# Altium footprint library modulo_control_pcblib.PcbLib: 6 footprints
Each footprint in its own frame and in the unit in brackets; x right, y up, seen from the top. Pads: shape width x height; smd on the part's side, far side on the other; paste and mask are expansions set on the pad; w line width, h text height; cw(c..) or ccw(c..) is an arc to the next point about the centre after c.
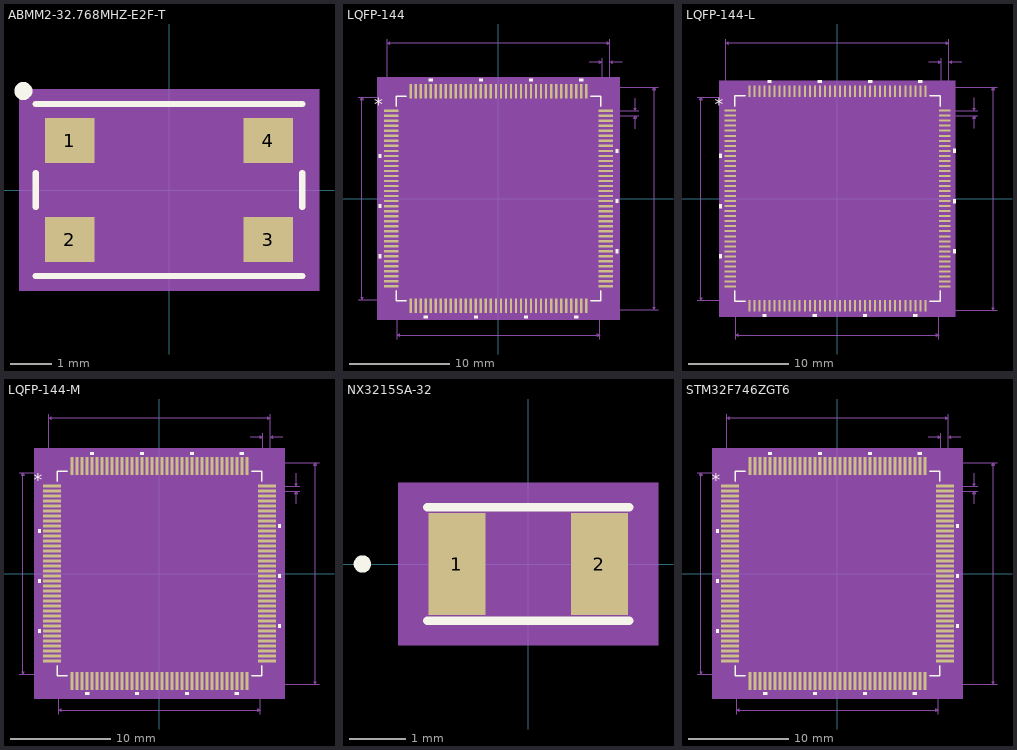
[diagram p0: the footprints below, top view; thin cyan lines are the x and y axes]

## ABMM2-32.768MHZ-E2F-T [mil]
pads (4):
  rect 47x43 smd paste+0 mask+0: 1(-94.5,47.24) 2(-94.5,-47.24) 3(94.5,-47.24) 4(94.5,47.24)
Top Overlay:
  circle w10: c-138.78,94.49 r3.55
  lines w6: -127,-82 127,-82 ; -127,-16.23 -127,16.23 ; -127,82 127,82 ; 127,-16.23 127,16.23
Mechanical 5:
  region: 143,-96 -143,-96 -143,96 143,96
Mechanical 13:
  lines w1: -122,27 -72,77 ; -122,-77 122,-77 122,77 -122,77 -122,-77 ; -122,-68.74 -122,-25.74 -118,-25.74 -118,-68.74 -122,-68.74 ; -122,25.74 -122,68.74 -118,68.74 -118,25.74 -122,25.74 ; 118,-68.74 122,-68.74 122,-25.74 118,-25.74 118,-68.74 ; 118,25.74 122,25.74 122,68.74 118,68.74 118,25.74
Mechanical 15:
  region: 15.74,-87 -132,-87 -132,-78.74 -132,78.74 -132,87 15.74,87 -15.74,87 132,87 132,78.74 132,-78.74 132,-87 -15.74,-87
  lines w6: -132,-87 -132,-78.74 -132,78.74 -132,87 15.74,87 -15.74,87 132,87 132,78.74 132,-78.74 132,-87 -15.74,-87 15.74,-87 -132,-87
3D body "ABMM2.STEP": height 47.64, standoff 0, extent -118.1,-70.86 118.12,70.87

## LQFP-144 [mm]
pads (144):
  rect 1.462x0.239 smd paste+0 mask+0: 1(-10.719,8.75) 2(-10.719,8.25) 3(-10.719,7.75) 4(-10.719,7.25) 5(-10.719,6.75) 6(-10.719,6.25) 7(-10.719,5.75) 8(-10.719,5.25) 9(-10.719,4.75) 10(-10.719,4.25) 11(-10.719,3.75) 12(-10.719,3.25) 13(-10.719,2.75) 14(-10.719,2.25) 15(-10.719,1.75) 16(-10.719,1.25) 17(-10.719,0.75) 18(-10.719,0.25) 19(-10.719,-0.25) 20(-10.719,-0.75) 21(-10.719,-1.25) 22(-10.719,-1.75) 23(-10.719,-2.25) 24(-10.719,-2.75) 25(-10.719,-3.25) 26(-10.719,-3.75) 27(-10.719,-4.25) 28(-10.719,-4.75) 29(-10.719,-5.25) 30(-10.719,-5.75) 31(-10.719,-6.25) 32(-10.719,-6.75) 33(-10.719,-7.25) 34(-10.719,-7.75) 35(-10.719,-8.25) 36(-10.719,-8.75) 73(10.719,-8.75) 74(10.719,-8.25) 75(10.719,-7.75) 76(10.719,-7.25) 77(10.719,-6.75) 78(10.719,-6.25) 79(10.719,-5.75) 80(10.719,-5.25) 81(10.719,-4.75) 82(10.719,-4.25) 83(10.719,-3.75) 84(10.719,-3.25) 85(10.719,-2.75) 86(10.719,-2.25) 87(10.719,-1.75) 88(10.719,-1.25) 89(10.719,-0.75) 90(10.719,-0.25) 91(10.719,0.25) 92(10.719,0.75) 93(10.719,1.25) 94(10.719,1.75) 95(10.719,2.25) 96(10.719,2.75) 97(10.719,3.25) 98(10.719,3.75) 99(10.719,4.25) 100(10.719,4.75) 101(10.719,5.25) 102(10.719,5.75) 103(10.719,6.25) 104(10.719,6.75) 105(10.719,7.25) 106(10.719,7.75) 107(10.719,8.25) 108(10.719,8.75)
  rect 0.239x1.462 smd paste+0 mask+0: 37(-8.75,-10.719) 38(-8.25,-10.719) 39(-7.75,-10.719) 40(-7.25,-10.719) 41(-6.75,-10.719) 42(-6.25,-10.719) 43(-5.75,-10.719) 44(-5.25,-10.719) 45(-4.75,-10.719) 46(-4.25,-10.719) 47(-3.75,-10.719) 48(-3.25,-10.719) 49(-2.75,-10.719) 50(-2.25,-10.719) 51(-1.75,-10.719) 52(-1.25,-10.719) 53(-0.75,-10.719) 54(-0.25,-10.719) 55(0.25,-10.719) 56(0.75,-10.719) 57(1.25,-10.719) 58(1.75,-10.719) 59(2.25,-10.719) 60(2.75,-10.719) 61(3.25,-10.719) 62(3.75,-10.719) 63(4.25,-10.719) 64(4.75,-10.719) 65(5.25,-10.719) 66(5.75,-10.719) 67(6.25,-10.719) 68(6.75,-10.719) 69(7.25,-10.719) 70(7.75,-10.719) 71(8.25,-10.719) 72(8.75,-10.719) 109(8.75,10.719) 110(8.25,10.719) 111(7.75,10.719) 112(7.25,10.719) 113(6.75,10.719) 114(6.25,10.719) 115(5.75,10.719) 116(5.25,10.719) 117(4.75,10.719) 118(4.25,10.719) 119(3.75,10.719) 120(3.25,10.719) 121(2.75,10.719) 122(2.25,10.719) 123(1.75,10.719) 124(1.25,10.719) 125(0.75,10.719) 126(0.25,10.719) 127(-0.25,10.719) 128(-0.75,10.719) 129(-1.25,10.719) 130(-1.75,10.719) 131(-2.25,10.719) 132(-2.75,10.719) 133(-3.25,10.719) 134(-3.75,10.719) 135(-4.25,10.719) 136(-4.75,10.719) 137(-5.25,10.719) 138(-5.75,10.719) 139(-6.25,10.719) 140(-6.75,10.719) 141(-7.25,10.719) 142(-7.75,10.719) 143(-8.25,10.719) 144(-8.75,10.719)
Top Overlay:
  region: -11.704,4.44 -11.958,4.44 -11.958,4.059 -11.704,4.059
  region: -11.704,-0.56 -11.958,-0.56 -11.958,-0.941 -11.704,-0.941
  region: -11.704,-5.56 -11.958,-5.56 -11.958,-5.941 -11.704,-5.941
  region: -7.06,-11.704 -7.441,-11.704 -7.441,-11.958 -7.06,-11.958
  region: -2.06,-11.704 -2.441,-11.704 -2.441,-11.958 -2.06,-11.958
  region: 2.94,-11.704 2.559,-11.704 2.559,-11.958 2.94,-11.958
  region: 7.94,-11.704 7.559,-11.704 7.559,-11.958 7.94,-11.958
  region: 11.704,-5.059 11.958,-5.059 11.958,-5.44 11.704,-5.44
  region: 11.704,-0.059 11.958,-0.059 11.958,-0.44 11.704,-0.44
  region: 11.704,4.941 11.958,4.941 11.958,4.56 11.704,4.56
  region: 8.441,11.704 8.06,11.704 8.06,11.958 8.441,11.958
  region: 3.441,11.704 3.06,11.704 3.06,11.958 3.441,11.958
  region: -1.559,11.704 -1.94,11.704 -1.94,11.958 -1.559,11.958
  region: -6.559,11.704 -6.94,11.704 -6.94,11.958 -6.559,11.958
  lines w0.152: -10.223,-9.202 -10.223,-10.223 -9.202,-10.223 ; -10.223,9.202 -10.223,10.223 -9.202,10.223 ; 9.202,-10.223 10.223,-10.223 10.223,-9.202 ; 9.202,10.223 10.223,10.223 10.223,9.202
  text "*" at -12.402,8.746 h1.27
Mechanical 5:
  region: 12.085,-12.085 -12.085,-12.085 -12.085,12.085 12.085,12.085
Mechanical 7:
  lines w0.025: -14.021,-10.096 -8.75,-10.096 ; -14.021,10.096 -8.75,10.096 ; -11.1,8.75 -11.1,15.926 ; -10.096,-14.021 -10.096,-8.75 ; 8.75,-11.1 15.926,-11.1 ; 8.75,11.1 15.926,11.1 ; 9.068,13.64 10.338,13.64 ; 10.096,-14.021 10.096,-8.75 ; 10.338,8.75 10.338,14.021 ; 10.719,8.25 14.021,8.25 ; 10.719,8.75 14.021,8.75 ; 11.1,14.021 11.1,8.75 11.1,15.926 ; 12.37,13.64 11.1,13.64 ; 13.64,6.98 13.64,8.25 ; 13.64,10.02 13.64,8.75 ; -13.64,-10.096 -13.64,10.096 ; -13.64,-10.096 -13.767,-9.842 -13.513,-9.842 -13.64,-10.096 ; -13.64,10.096 -13.767,9.842 -13.513,9.842 -13.64,10.096 ; -11.1,15.545 11.1,15.545 ; -11.1,15.545 -10.846,15.672 -10.846,15.418 -11.1,15.545 ; -10.096,-13.64 10.096,-13.64 ; -10.096,-13.64 -9.842,-13.513 -9.842,-13.767 -10.096,-13.64 ; 10.096,-13.64 9.842,-13.513 9.842,-13.767 10.096,-13.64 ; 10.338,13.64 10.084,13.767 10.084,13.513 10.338,13.64 ; 11.1,13.64 11.354,13.767 11.354,13.513 11.1,13.64 ; 11.1,15.545 10.846,15.672 10.846,15.418 11.1,15.545 ; 13.64,8.25 13.513,7.996 13.767,7.996 13.64,8.25 ; 13.64,8.75 13.513,9.004 13.767,9.004 13.64,8.75 ; 15.545,-11.1 15.545,11.1 ; 15.545,-11.1 15.418,-10.846 15.672,-10.846 15.545,-11.1 ; 15.545,11.1 15.418,10.846 15.672,10.846 15.545,11.1
  text "Default Horiz Padstyle: r24_146" at -9.842,-17.45 h1.27
  text "Default Vert Padstyle: r24_146" at -9.525,-18.974 h1.27
  text "Alt 1 Padstyle: b152_229h76" at -8.572,-23.546 h1.27
  text "Alt 2 Padstyle: b229_152h76" at -8.572,-25.07 h1.27
  text "0.02in/0.5mm" at 14.148,8.183 h0.64
  text "0.03in/0.762mm" at 8.496,14.148 h0.64
  text "0.874in/22.2mm" at -2.222,16.053 h0.64
  text "0.795in/20.193mm" at -2.54,-14.783 h0.64
  text "0.795in/20.193mm" at -19.228,-0.318 h0.64
  text "0.874in/22.2mm" at 16.053,-0.318 h0.64
Mechanical 13:
  drawing of 581 lines, arcs and shapes, not listed
  text "*" at -10.033,8.365 h1.27
Mechanical 15:
  region: -9.124,-10.351 -10.351,-10.351 -10.351,-9.124 -11.704,-9.124 -11.704,9.124 -10.351,9.124 -10.351,10.351 -9.124,10.351 -9.124,11.704 9.124,11.704 9.124,10.351 10.351,10.351 10.351,9.124 11.704,9.124 11.704,-9.124 10.351,-9.124 10.351,-10.351 9.124,-10.351 9.124,-11.704 -9.124,-11.704
  lines w0.152: -11.704,-9.124 -10.351,-9.124 -10.351,-10.351 -9.124,-10.351 -9.124,-11.704 9.124,-11.704 9.124,-10.351 10.351,-10.351 10.351,-9.124 11.704,-9.124 11.704,9.124 10.351,9.124 10.351,10.351 9.124,10.351 9.124,11.704 -9.124,11.704 -9.124,10.351 -10.351,10.351 -10.351,9.124 -11.704,9.124 -11.704,-9.124
3D body: height 0.25, standoff 0, extent 0,0 0.254,0.254

## LQFP-144-L [mm]
pads (144):
  rect 1.162x0.199 smd paste+0 mask+0: 1(-10.669,8.75) 2(-10.669,8.25) 3(-10.669,7.75) 4(-10.669,7.25) 5(-10.669,6.75) 6(-10.669,6.25) 7(-10.669,5.75) 8(-10.669,5.25) 9(-10.669,4.75) 10(-10.669,4.25) 11(-10.669,3.75) 12(-10.669,3.25) 13(-10.669,2.75) 14(-10.669,2.25) 15(-10.669,1.75) 16(-10.669,1.25) 17(-10.669,0.75) 18(-10.669,0.25) 19(-10.669,-0.25) 20(-10.669,-0.75) 21(-10.669,-1.25) 22(-10.669,-1.75) 23(-10.669,-2.25) 24(-10.669,-2.75) 25(-10.669,-3.25) 26(-10.669,-3.75) 27(-10.669,-4.25) 28(-10.669,-4.75) 29(-10.669,-5.25) 30(-10.669,-5.75) 31(-10.669,-6.25) 32(-10.669,-6.75) 33(-10.669,-7.25) 34(-10.669,-7.75) 35(-10.669,-8.25) 36(-10.669,-8.75) 73(10.669,-8.75) 74(10.669,-8.25) 75(10.669,-7.75) 76(10.669,-7.25) 77(10.669,-6.75) 78(10.669,-6.25) 79(10.669,-5.75) 80(10.669,-5.25) 81(10.669,-4.75) 82(10.669,-4.25) 83(10.669,-3.75) 84(10.669,-3.25) 85(10.669,-2.75) 86(10.669,-2.25) 87(10.669,-1.75) 88(10.669,-1.25) 89(10.669,-0.75) 90(10.669,-0.25) 91(10.669,0.25) 92(10.669,0.75) 93(10.669,1.25) 94(10.669,1.75) 95(10.669,2.25) 96(10.669,2.75) 97(10.669,3.25) 98(10.669,3.75) 99(10.669,4.25) 100(10.669,4.75) 101(10.669,5.25) 102(10.669,5.75) 103(10.669,6.25) 104(10.669,6.75) 105(10.669,7.25) 106(10.669,7.75) 107(10.669,8.25) 108(10.669,8.75)
  rect 0.199x1.162 smd paste+0 mask+0: 37(-8.75,-10.669) 38(-8.25,-10.669) 39(-7.75,-10.669) 40(-7.25,-10.669) 41(-6.75,-10.669) 42(-6.25,-10.669) 43(-5.75,-10.669) 44(-5.25,-10.669) 45(-4.75,-10.669) 46(-4.25,-10.669) 47(-3.75,-10.669) 48(-3.25,-10.669) 49(-2.75,-10.669) 50(-2.25,-10.669) 51(-1.75,-10.669) 52(-1.25,-10.669) 53(-0.75,-10.669) 54(-0.25,-10.669) 55(0.25,-10.669) 56(0.75,-10.669) 57(1.25,-10.669) 58(1.75,-10.669) 59(2.25,-10.669) 60(2.75,-10.669) 61(3.25,-10.669) 62(3.75,-10.669) 63(4.25,-10.669) 64(4.75,-10.669) 65(5.25,-10.669) 66(5.75,-10.669) 67(6.25,-10.669) 68(6.75,-10.669) 69(7.25,-10.669) 70(7.75,-10.669) 71(8.25,-10.669) 72(8.75,-10.669) 109(8.75,10.669) 110(8.25,10.669) 111(7.75,10.669) 112(7.25,10.669) 113(6.75,10.669) 114(6.25,10.669) 115(5.75,10.669) 116(5.25,10.669) 117(4.75,10.669) 118(4.25,10.669) 119(3.75,10.669) 120(3.25,10.669) 121(2.75,10.669) 122(2.25,10.669) 123(1.75,10.669) 124(1.25,10.669) 125(0.75,10.669) 126(0.25,10.669) 127(-0.25,10.669) 128(-0.75,10.669) 129(-1.25,10.669) 130(-1.75,10.669) 131(-2.25,10.669) 132(-2.75,10.669) 133(-3.25,10.669) 134(-3.75,10.669) 135(-4.25,10.669) 136(-4.75,10.669) 137(-5.25,10.669) 138(-5.75,10.669) 139(-6.25,10.669) 140(-6.75,10.669) 141(-7.25,10.669) 142(-7.75,10.669) 143(-8.25,10.669) 144(-8.75,10.669)
Top Overlay:
  region: -11.504,4.44 -11.758,4.44 -11.758,4.059 -11.504,4.059
  region: -11.504,-0.56 -11.758,-0.56 -11.758,-0.941 -11.504,-0.941
  region: -11.504,-5.56 -11.758,-5.56 -11.758,-5.941 -11.504,-5.941
  region: -7.06,-11.504 -7.441,-11.504 -7.441,-11.758 -7.06,-11.758
  region: -2.06,-11.504 -2.441,-11.504 -2.441,-11.758 -2.06,-11.758
  region: 2.94,-11.504 2.559,-11.504 2.559,-11.758 2.94,-11.758
  region: 7.94,-11.504 7.559,-11.504 7.559,-11.758 7.94,-11.758
  region: 11.504,-5.059 11.758,-5.059 11.758,-5.44 11.504,-5.44
  region: 11.504,-0.059 11.758,-0.059 11.758,-0.44 11.504,-0.44
  region: 11.504,4.941 11.758,4.941 11.758,4.56 11.504,4.56
  region: 8.441,11.504 8.06,11.504 8.06,11.758 8.441,11.758
  region: 3.441,11.504 3.06,11.504 3.06,11.758 3.441,11.758
  region: -1.559,11.504 -1.94,11.504 -1.94,11.758 -1.559,11.758
  region: -6.559,11.504 -6.94,11.504 -6.94,11.758 -6.559,11.758
  lines w0.152: -10.223,-9.182 -10.223,-10.223 -9.182,-10.223 ; -10.223,9.182 -10.223,10.223 -9.182,10.223 ; 9.182,-10.223 10.223,-10.223 10.223,-9.182 ; 9.182,10.223 10.223,10.223 10.223,9.182
  text "*" at -12.202,8.746 h1.27
Mechanical 5:
  region: 11.732,-11.732 -11.732,-11.732 -11.732,11.732 11.732,11.732
Mechanical 7:
  lines w0.025: -13.971,-10.096 -8.75,-10.096 ; -13.971,10.096 -8.75,10.096 ; -11.1,8.75 -11.1,15.876 ; -10.096,-13.971 -10.096,-8.75 ; 8.75,-11.1 15.876,-11.1 ; 8.75,11.1 15.876,11.1 ; 9.068,13.59 10.338,13.59 ; 10.096,-13.971 10.096,-8.75 ; 10.338,8.75 10.338,13.971 ; 10.669,8.25 13.971,8.25 ; 10.669,8.75 13.971,8.75 ; 11.1,13.971 11.1,8.75 11.1,15.876 ; 12.37,13.59 11.1,13.59 ; 13.59,6.98 13.59,8.25 ; 13.59,10.02 13.59,8.75 ; -13.59,-10.096 -13.59,10.096 ; -13.59,-10.096 -13.717,-9.842 -13.463,-9.842 -13.59,-10.096 ; -13.59,10.096 -13.717,9.842 -13.463,9.842 -13.59,10.096 ; -11.1,15.495 11.1,15.495 ; -11.1,15.495 -10.846,15.622 -10.846,15.368 -11.1,15.495 ; -10.096,-13.59 10.096,-13.59 ; -10.096,-13.59 -9.842,-13.463 -9.842,-13.717 -10.096,-13.59 ; 10.096,-13.59 9.842,-13.463 9.842,-13.717 10.096,-13.59 ; 10.338,13.59 10.084,13.717 10.084,13.463 10.338,13.59 ; 11.1,13.59 11.354,13.717 11.354,13.463 11.1,13.59 ; 11.1,15.495 10.846,15.622 10.846,15.368 11.1,15.495 ; 13.59,8.25 13.463,7.996 13.717,7.996 13.59,8.25 ; 13.59,8.75 13.463,9.004 13.717,9.004 13.59,8.75 ; 15.495,-11.1 15.495,11.1 ; 15.495,-11.1 15.368,-10.846 15.622,-10.846 15.495,-11.1 ; 15.495,11.1 15.368,10.846 15.622,10.846 15.495,11.1
  text "Default Horiz Padstyle: r20_116" at -9.842,-17.4 h1.27
  text "Default Vert Padstyle: r20_116" at -9.525,-18.924 h1.27
  text "Alt 1 Padstyle: b152_229h76" at -8.572,-23.496 h1.27
  text "Alt 2 Padstyle: b229_152h76" at -8.572,-25.02 h1.27
  text "0.02in/0.5mm" at 14.098,8.183 h0.64
  text "0.03in/0.762mm" at 8.496,14.098 h0.64
  text "0.874in/22.2mm" at -2.222,16.003 h0.64
  text "0.795in/20.193mm" at -2.54,-14.733 h0.64
  text "0.795in/20.193mm" at -19.178,-0.318 h0.64
  text "0.874in/22.2mm" at 16.003,-0.318 h0.64
Mechanical 13:
  drawing of 581 lines, arcs and shapes, not listed
  text "*" at -10.033,8.365 h1.27
Mechanical 15:
  region: -8.951,-10.198 -10.198,-10.198 -10.198,-8.951 -11.351,-8.951 -11.351,8.951 -10.198,8.951 -10.198,10.198 -8.951,10.198 -8.951,11.351 8.951,11.351 8.951,10.198 10.198,10.198 10.198,8.951 11.351,8.951 11.351,-8.951 10.198,-8.951 10.198,-10.198 8.951,-10.198 8.951,-11.351 -8.951,-11.351
  lines w0.152: -11.351,-8.951 -10.198,-8.951 -10.198,-10.198 -8.951,-10.198 -8.951,-11.351 8.951,-11.351 8.951,-10.198 10.198,-10.198 10.198,-8.951 11.351,-8.951 11.351,8.951 10.198,8.951 10.198,10.198 8.951,10.198 8.951,11.351 -8.951,11.351 -8.951,10.198 -10.198,10.198 -10.198,8.951 -11.351,8.951 -11.351,-8.951
3D body: height 0.25, standoff 0, extent 0,0 0.254,0.254

## LQFP-144-M [mm]
pads (144):
  rect 1.762x0.299 smd paste+0 mask+0: 1(-10.769,8.75) 2(-10.769,8.25) 3(-10.769,7.75) 4(-10.769,7.25) 5(-10.769,6.75) 6(-10.769,6.25) 7(-10.769,5.75) 8(-10.769,5.25) 9(-10.769,4.75) 10(-10.769,4.25) 11(-10.769,3.75) 12(-10.769,3.25) 13(-10.769,2.75) 14(-10.769,2.25) 15(-10.769,1.75) 16(-10.769,1.25) 17(-10.769,0.75) 18(-10.769,0.25) 19(-10.769,-0.25) 20(-10.769,-0.75) 21(-10.769,-1.25) 22(-10.769,-1.75) 23(-10.769,-2.25) 24(-10.769,-2.75) 25(-10.769,-3.25) 26(-10.769,-3.75) 27(-10.769,-4.25) 28(-10.769,-4.75) 29(-10.769,-5.25) 30(-10.769,-5.75) 31(-10.769,-6.25) 32(-10.769,-6.75) 33(-10.769,-7.25) 34(-10.769,-7.75) 35(-10.769,-8.25) 36(-10.769,-8.75) 73(10.769,-8.75) 74(10.769,-8.25) 75(10.769,-7.75) 76(10.769,-7.25) 77(10.769,-6.75) 78(10.769,-6.25) 79(10.769,-5.75) 80(10.769,-5.25) 81(10.769,-4.75) 82(10.769,-4.25) 83(10.769,-3.75) 84(10.769,-3.25) 85(10.769,-2.75) 86(10.769,-2.25) 87(10.769,-1.75) 88(10.769,-1.25) 89(10.769,-0.75) 90(10.769,-0.25) 91(10.769,0.25) 92(10.769,0.75) 93(10.769,1.25) 94(10.769,1.75) 95(10.769,2.25) 96(10.769,2.75) 97(10.769,3.25) 98(10.769,3.75) 99(10.769,4.25) 100(10.769,4.75) 101(10.769,5.25) 102(10.769,5.75) 103(10.769,6.25) 104(10.769,6.75) 105(10.769,7.25) 106(10.769,7.75) 107(10.769,8.25) 108(10.769,8.75)
  rect 0.299x1.762 smd paste+0 mask+0: 37(-8.75,-10.769) 38(-8.25,-10.769) 39(-7.75,-10.769) 40(-7.25,-10.769) 41(-6.75,-10.769) 42(-6.25,-10.769) 43(-5.75,-10.769) 44(-5.25,-10.769) 45(-4.75,-10.769) 46(-4.25,-10.769) 47(-3.75,-10.769) 48(-3.25,-10.769) 49(-2.75,-10.769) 50(-2.25,-10.769) 51(-1.75,-10.769) 52(-1.25,-10.769) 53(-0.75,-10.769) 54(-0.25,-10.769) 55(0.25,-10.769) 56(0.75,-10.769) 57(1.25,-10.769) 58(1.75,-10.769) 59(2.25,-10.769) 60(2.75,-10.769) 61(3.25,-10.769) 62(3.75,-10.769) 63(4.25,-10.769) 64(4.75,-10.769) 65(5.25,-10.769) 66(5.75,-10.769) 67(6.25,-10.769) 68(6.75,-10.769) 69(7.25,-10.769) 70(7.75,-10.769) 71(8.25,-10.769) 72(8.75,-10.769) 109(8.75,10.769) 110(8.25,10.769) 111(7.75,10.769) 112(7.25,10.769) 113(6.75,10.769) 114(6.25,10.769) 115(5.75,10.769) 116(5.25,10.769) 117(4.75,10.769) 118(4.25,10.769) 119(3.75,10.769) 120(3.25,10.769) 121(2.75,10.769) 122(2.25,10.769) 123(1.75,10.769) 124(1.25,10.769) 125(0.75,10.769) 126(0.25,10.769) 127(-0.25,10.769) 128(-0.75,10.769) 129(-1.25,10.769) 130(-1.75,10.769) 131(-2.25,10.769) 132(-2.75,10.769) 133(-3.25,10.769) 134(-3.75,10.769) 135(-4.25,10.769) 136(-4.75,10.769) 137(-5.25,10.769) 138(-5.75,10.769) 139(-6.25,10.769) 140(-6.75,10.769) 141(-7.25,10.769) 142(-7.75,10.769) 143(-8.25,10.769) 144(-8.75,10.769)
Top Overlay:
  region: -6.559,11.904 -6.94,11.904 -6.94,12.158 -6.559,12.158
  region: -1.559,11.904 -1.94,11.904 -1.94,12.158 -1.559,12.158
  region: 3.441,11.904 3.06,11.904 3.06,12.158 3.441,12.158
  region: 8.441,11.904 8.06,11.904 8.06,12.158 8.441,12.158
  region: 11.904,4.941 12.158,4.941 12.158,4.56 11.904,4.56
  region: 11.904,-0.059 12.158,-0.059 12.158,-0.44 11.904,-0.44
  region: 11.904,-5.059 12.158,-5.059 12.158,-5.44 11.904,-5.44
  region: 7.94,-11.904 7.559,-11.904 7.559,-12.158 7.94,-12.158
  region: 2.94,-11.904 2.559,-11.904 2.559,-12.158 2.94,-12.158
  region: -2.06,-11.904 -2.441,-11.904 -2.441,-12.158 -2.06,-12.158
  region: -7.06,-11.904 -7.441,-11.904 -7.441,-12.158 -7.06,-12.158
  region: -11.904,-5.56 -12.158,-5.56 -12.158,-5.941 -11.904,-5.941
  region: -11.904,-0.56 -12.158,-0.56 -12.158,-0.941 -11.904,-0.941
  region: -11.904,4.44 -12.158,4.44 -12.158,4.059 -11.904,4.059
  lines w0.152: -10.223,-9.232 -10.223,-10.223 -9.232,-10.223 ; -10.223,9.232 -10.223,10.223 -9.232,10.223 ; 9.232,-10.223 10.223,-10.223 10.223,-9.232 ; 9.232,10.223 10.223,10.223 10.223,9.232
  text "*" at -12.602,8.746 h1.27
Mechanical 5:
  region: 12.539,-12.539 -12.539,-12.539 -12.539,12.539 12.539,12.539
Mechanical 7:
  lines w0.025: -14.071,-10.096 -8.75,-10.096 ; -14.071,10.096 -8.75,10.096 ; -11.1,8.75 -11.1,15.976 ; -10.096,-14.071 -10.096,-8.75 ; 8.75,-11.1 15.976,-11.1 ; 8.75,11.1 15.976,11.1 ; 9.068,13.69 10.338,13.69 ; 10.096,-14.071 10.096,-8.75 ; 10.338,8.75 10.338,14.071 ; 10.769,8.25 14.071,8.25 ; 10.769,8.75 14.071,8.75 ; 11.1,14.071 11.1,8.75 11.1,15.976 ; 12.37,13.69 11.1,13.69 ; 13.69,6.98 13.69,8.25 ; 13.69,10.02 13.69,8.75 ; -13.69,-10.096 -13.563,-9.842 -13.817,-9.842 -13.69,-10.096 ; -13.69,-10.096 -13.69,10.096 ; -13.69,10.096 -13.563,9.842 -13.817,9.842 -13.69,10.096 ; -11.1,15.595 -10.846,15.468 -10.846,15.722 -11.1,15.595 ; -11.1,15.595 11.1,15.595 ; -10.096,-13.69 -9.842,-13.817 -9.842,-13.563 -10.096,-13.69 ; -10.096,-13.69 10.096,-13.69 ; 10.096,-13.69 9.842,-13.817 9.842,-13.563 10.096,-13.69 ; 10.338,13.69 10.084,13.563 10.084,13.817 10.338,13.69 ; 11.1,13.69 11.354,13.563 11.354,13.817 11.1,13.69 ; 11.1,15.595 10.846,15.468 10.846,15.722 11.1,15.595 ; 13.69,8.25 13.817,7.996 13.563,7.996 13.69,8.25 ; 13.69,8.75 13.817,9.004 13.563,9.004 13.69,8.75 ; 15.595,-11.1 15.722,-10.846 15.468,-10.846 15.595,-11.1 ; 15.595,-11.1 15.595,11.1 ; 15.595,11.1 15.722,10.846 15.468,10.846 15.595,11.1
  text "0.874in/22.2mm" at 16.103,-0.318 h0.64
  text "0.795in/20.193mm" at -19.278,-0.318 h0.64
  text "0.795in/20.193mm" at -2.54,-14.833 h0.64
  text "0.874in/22.2mm" at -2.222,16.103 h0.64
  text "0.03in/0.762mm" at 8.496,14.198 h0.64
  text "0.02in/0.5mm" at 14.198,8.183 h0.64
  text "Alt 2 Padstyle: b229_152h76" at -8.572,-25.12 h1.27
  text "Alt 1 Padstyle: b152_229h76" at -8.572,-23.596 h1.27
  text "Default Vert Padstyle: r30_176" at -9.525,-19.024 h1.27
  text "Default Horiz Padstyle: r30_176" at -9.842,-17.5 h1.27
Mechanical 13:
  drawing of 581 lines, arcs and shapes, not listed
  text "*" at -10.033,8.365 h1.27
Mechanical 15:
  region: -9.408,-10.604 -10.604,-10.604 -10.604,-9.408 -12.158,-9.408 -12.158,9.408 -10.604,9.408 -10.604,10.604 -9.408,10.604 -9.408,12.158 9.408,12.158 9.408,10.604 10.604,10.604 10.604,9.408 12.158,9.408 12.158,-9.408 10.604,-9.408 10.604,-10.604 9.408,-10.604 9.408,-12.158 -9.408,-12.158
  lines w0.152: -12.158,-9.408 -12.158,9.408 -10.604,9.408 -10.604,10.604 -9.408,10.604 -9.408,12.158 9.408,12.158 9.408,10.604 10.604,10.604 10.604,9.408 12.158,9.408 12.158,-9.408 10.604,-9.408 10.604,-10.604 9.408,-10.604 9.408,-12.158 -9.408,-12.158 -9.408,-10.604 -10.604,-10.604 -10.604,-9.408 -12.158,-9.408
3D body: height 0.25, standoff 0, extent 0,0 0.254,0.254

## NX3215SA-32 [mm]
pads (2):
  rect 1x1.8 smd paste+0 mask+0: 1(-1.255,0) 2(1.255,0)
Top Overlay:
  circle w0.152: c-2.921,0 r0.076
  lines w0.152: -1.775,-1 1.781,-1 ; -1.775,1 1.781,1
Mechanical 5:
  region: 2.286,-1.435 -2.286,-1.435 -2.286,1.435 2.286,1.435
Mechanical 13:
  circle w0: c-1.143,0 r0.076
  lines w0.025: -1.905,-1.054 1.905,-1.054 1.905,1.054 -1.905,1.054 -1.905,-1.054 ; -1.651,-0.8 -1.651,0.8 1.651,0.8 1.651,-0.8 -1.651,-0.8
Mechanical 15:
  region: -1.753,-0.649 -2.007,-0.649 -2.007,0.649 -1.753,0.649 -1.753,0.902 1.753,0.902 1.753,0.649 2.007,0.649 2.007,-0.649 1.753,-0.649 1.753,-0.902 -1.753,-0.902
  lines w0.152: -2.007,-0.649 -1.753,-0.649 -1.753,-0.902 1.753,-0.902 1.753,-0.649 2.007,-0.649 2.007,0.649 1.753,0.649 1.753,0.902 -1.753,0.902 -1.753,0.649 -2.007,0.649 -2.007,-0.649
3D body: height 0.25, standoff 0, extent 0,0 0.254,0.254
3D body "NDK_NX3215SA.STEP": height 0.8, standoff 0, extent -1.6,-0.75 1.6,0.75

## STM32F746ZGT6 [mm]
pads (144):
  rect 1.762x0.299 smd paste+0 mask+0: 1(-10.769,8.75) 2(-10.769,8.25) 3(-10.769,7.75) 4(-10.769,7.25) 5(-10.769,6.75) 6(-10.769,6.25) 7(-10.769,5.75) 8(-10.769,5.25) 9(-10.769,4.75) 10(-10.769,4.25) 11(-10.769,3.75) 12(-10.769,3.25) 13(-10.769,2.75) 14(-10.769,2.25) 15(-10.769,1.75) 16(-10.769,1.25) 17(-10.769,0.75) 18(-10.769,0.25) 19(-10.769,-0.25) 20(-10.769,-0.75) 21(-10.769,-1.25) 22(-10.769,-1.75) 23(-10.769,-2.25) 24(-10.769,-2.75) 25(-10.769,-3.25) 26(-10.769,-3.75) 27(-10.769,-4.25) 28(-10.769,-4.75) 29(-10.769,-5.25) 30(-10.769,-5.75) 31(-10.769,-6.25) 32(-10.769,-6.75) 33(-10.769,-7.25) 34(-10.769,-7.75) 35(-10.769,-8.25) 36(-10.769,-8.75) 73(10.769,-8.75) 74(10.769,-8.25) 75(10.769,-7.75) 76(10.769,-7.25) 77(10.769,-6.75) 78(10.769,-6.25) 79(10.769,-5.75) 80(10.769,-5.25) 81(10.769,-4.75) 82(10.769,-4.25) 83(10.769,-3.75) 84(10.769,-3.25) 85(10.769,-2.75) 86(10.769,-2.25) 87(10.769,-1.75) 88(10.769,-1.25) 89(10.769,-0.75) 90(10.769,-0.25) 91(10.769,0.25) 92(10.769,0.75) 93(10.769,1.25) 94(10.769,1.75) 95(10.769,2.25) 96(10.769,2.75) 97(10.769,3.25) 98(10.769,3.75) 99(10.769,4.25) 100(10.769,4.75) 101(10.769,5.25) 102(10.769,5.75) 103(10.769,6.25) 104(10.769,6.75) 105(10.769,7.25) 106(10.769,7.75) 107(10.769,8.25) 108(10.769,8.75)
  rect 0.299x1.762 smd paste+0 mask+0: 37(-8.75,-10.769) 38(-8.25,-10.769) 39(-7.75,-10.769) 40(-7.25,-10.769) 41(-6.75,-10.769) 42(-6.25,-10.769) 43(-5.75,-10.769) 44(-5.25,-10.769) 45(-4.75,-10.769) 46(-4.25,-10.769) 47(-3.75,-10.769) 48(-3.25,-10.769) 49(-2.75,-10.769) 50(-2.25,-10.769) 51(-1.75,-10.769) 52(-1.25,-10.769) 53(-0.75,-10.769) 54(-0.25,-10.769) 55(0.25,-10.769) 56(0.75,-10.769) 57(1.25,-10.769) 58(1.75,-10.769) 59(2.25,-10.769) 60(2.75,-10.769) 61(3.25,-10.769) 62(3.75,-10.769) 63(4.25,-10.769) 64(4.75,-10.769) 65(5.25,-10.769) 66(5.75,-10.769) 67(6.25,-10.769) 68(6.75,-10.769) 69(7.25,-10.769) 70(7.75,-10.769) 71(8.25,-10.769) 72(8.75,-10.769) 109(8.75,10.769) 110(8.25,10.769) 111(7.75,10.769) 112(7.25,10.769) 113(6.75,10.769) 114(6.25,10.769) 115(5.75,10.769) 116(5.25,10.769) 117(4.75,10.769) 118(4.25,10.769) 119(3.75,10.769) 120(3.25,10.769) 121(2.75,10.769) 122(2.25,10.769) 123(1.75,10.769) 124(1.25,10.769) 125(0.75,10.769) 126(0.25,10.769) 127(-0.25,10.769) 128(-0.75,10.769) 129(-1.25,10.769) 130(-1.75,10.769) 131(-2.25,10.769) 132(-2.75,10.769) 133(-3.25,10.769) 134(-3.75,10.769) 135(-4.25,10.769) 136(-4.75,10.769) 137(-5.25,10.769) 138(-5.75,10.769) 139(-6.25,10.769) 140(-6.75,10.769) 141(-7.25,10.769) 142(-7.75,10.769) 143(-8.25,10.769) 144(-8.75,10.769)
Top Overlay:
  region: -11.904,4.44 -12.158,4.44 -12.158,4.059 -11.904,4.059
  region: -11.904,-0.56 -12.158,-0.56 -12.158,-0.941 -11.904,-0.941
  region: -11.904,-5.56 -12.158,-5.56 -12.158,-5.941 -11.904,-5.941
  region: -7.06,-11.904 -7.441,-11.904 -7.441,-12.158 -7.06,-12.158
  region: -2.06,-11.904 -2.441,-11.904 -2.441,-12.158 -2.06,-12.158
  region: 2.94,-11.904 2.559,-11.904 2.559,-12.158 2.94,-12.158
  region: 7.94,-11.904 7.559,-11.904 7.559,-12.158 7.94,-12.158
  region: 11.904,-5.059 12.158,-5.059 12.158,-5.44 11.904,-5.44
  region: 11.904,-0.059 12.158,-0.059 12.158,-0.44 11.904,-0.44
  region: 11.904,4.941 12.158,4.941 12.158,4.56 11.904,4.56
  region: 8.441,11.904 8.06,11.904 8.06,12.158 8.441,12.158
  region: 3.441,11.904 3.06,11.904 3.06,12.158 3.441,12.158
  region: -1.559,11.904 -1.94,11.904 -1.94,12.158 -1.559,12.158
  region: -6.559,11.904 -6.94,11.904 -6.94,12.158 -6.559,12.158
  lines w0.152: -10.223,-9.232 -10.223,-10.223 -9.232,-10.223 ; -10.223,9.232 -10.223,10.223 -9.232,10.223 ; 9.232,-10.223 10.223,-10.223 10.223,-9.232 ; 9.232,10.223 10.223,10.223 10.223,9.232
  text "*" at -12.602,8.746 h1.27
Mechanical 5:
  region: 12.539,-12.539 -12.539,-12.539 -12.539,12.539 12.539,12.539
Mechanical 7:
  lines w0.025: -14.071,-10.096 -8.75,-10.096 ; -14.071,10.096 -8.75,10.096 ; -11.1,8.75 -11.1,15.976 ; -10.096,-14.071 -10.096,-8.75 ; 8.75,-11.1 15.976,-11.1 ; 8.75,11.1 15.976,11.1 ; 9.068,13.69 10.338,13.69 ; 10.096,-14.071 10.096,-8.75 ; 10.338,8.75 10.338,14.071 ; 10.769,8.25 14.071,8.25 ; 10.769,8.75 14.071,8.75 ; 11.1,14.071 11.1,8.75 11.1,15.976 ; 12.37,13.69 11.1,13.69 ; 13.69,6.98 13.69,8.25 ; 13.69,10.02 13.69,8.75 ; -13.69,-10.096 -13.69,10.096 ; -13.69,-10.096 -13.817,-9.842 -13.563,-9.842 -13.69,-10.096 ; -13.69,10.096 -13.817,9.842 -13.563,9.842 -13.69,10.096 ; -11.1,15.595 11.1,15.595 ; -11.1,15.595 -10.846,15.722 -10.846,15.468 -11.1,15.595 ; -10.096,-13.69 10.096,-13.69 ; -10.096,-13.69 -9.842,-13.563 -9.842,-13.817 -10.096,-13.69 ; 10.096,-13.69 9.842,-13.563 9.842,-13.817 10.096,-13.69 ; 10.338,13.69 10.084,13.817 10.084,13.563 10.338,13.69 ; 11.1,13.69 11.354,13.817 11.354,13.563 11.1,13.69 ; 11.1,15.595 10.846,15.722 10.846,15.468 11.1,15.595 ; 13.69,8.25 13.563,7.996 13.817,7.996 13.69,8.25 ; 13.69,8.75 13.563,9.004 13.817,9.004 13.69,8.75 ; 15.595,-11.1 15.595,11.1 ; 15.595,-11.1 15.468,-10.846 15.722,-10.846 15.595,-11.1 ; 15.595,11.1 15.468,10.846 15.722,10.846 15.595,11.1
  text "0.02in/0.5mm" at 14.198,8.183 h0.64
  text "0.03in/0.762mm" at 8.496,14.198 h0.64
  text "0.874in/22.2mm" at -2.222,16.103 h0.64
  text "0.795in/20.193mm" at -2.54,-14.833 h0.64
  text "0.795in/20.193mm" at -23.6,-0.2 h0.64
  text "0.874in/22.2mm" at 16.103,-0.318 h0.64
Mechanical 13:
  drawing of 581 lines, arcs and shapes, not listed
  text "*" at -10.033,8.365 h1.27
Mechanical 15:
  region: -9.408,-10.604 -10.604,-10.604 -10.604,-9.408 -12.158,-9.408 -12.158,9.408 -10.604,9.408 -10.604,10.604 -9.408,10.604 -9.408,12.158 9.408,12.158 9.408,10.604 10.604,10.604 10.604,9.408 12.158,9.408 12.158,-9.408 10.604,-9.408 10.604,-10.604 9.408,-10.604 9.408,-12.158 -9.408,-12.158
  lines w0.152: -12.158,-9.408 -10.604,-9.408 -10.604,-10.604 -9.408,-10.604 -9.408,-12.158 9.408,-12.158 9.408,-10.604 10.604,-10.604 10.604,-9.408 12.158,-9.408 12.158,9.408 10.604,9.408 10.604,10.604 9.408,10.604 9.408,12.158 -9.408,12.158 -9.408,10.604 -10.604,10.604 -10.604,9.408 -12.158,9.408 -12.158,-9.408
3D body "LQFP144_STM32F4.STEP": height 1.88, standoff -0.02, extent -11,-11 11,11
3D body: height 0.25, standoff 0, extent 0,0 0.254,0.254